# Altium schematic symbol library OpAmp.SchLib: 4 symbols
Pins are listed as number, name and electrical type; pins without a type are passive.

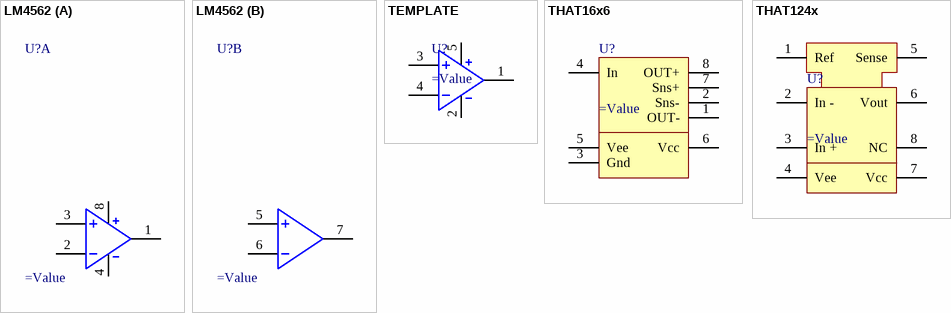
[diagram p0: symbols LM4562 to THAT124x]

## LM4562
designator U?
IC OPAMP Dual High-Performance, High-FidelityAudio SOIC-8
part A pins: 1, 2, 3, 4, 8
part B pins: 5, 6, 7

## TEMPLATE
designator U?
OPAMP SOT23-5
pins: 1, 2, 3, 4, 5

## THAT16x6
designator U?
Audio differential / amplifier; Balanced Input Line Receiver; LatestRevisionDate: 17-Jul-2002; LatestRevisionNote: Re-released for DXP Platform.; Publisher: Altium Limited
pins: 1 OUT-, 2 Sns-, 3 Gnd, 4 In, 5 Vee, 6 Vcc, 7 Sns+, 8 OUT+

## THAT124x
designator U?
Precision differential / amplifier; Balanced Input Line Receiver; LatestRevisionDate: 17-Jul-2002; LatestRevisionNote: Re-released for DXP Platform.; Publisher: Altium Limited
pins: 1 Ref, 2 In -, 3 In +, 4 Vee, 5 Sense, 6 Vout, 7 Vcc, 8 NC